# Altium schematic symbol library AD7291BCPZ.SchLib: 2 symbols
Pins are listed as number, name and electrical type; pins without a type are passive.

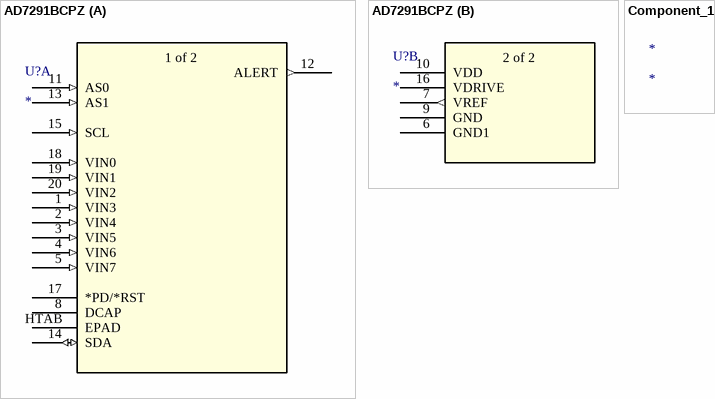
[diagram p0: symbols AD7291BCPZ to Component_1]

## AD7291BCPZ
designator U?
No Description Available; Mfr_Name: Analog Devices Inc; RefDes: RefDes; Type: Type
footprint CP_20_8_ADI
part A pins: 1 VIN3 (in), 2 VIN4 (in), 3 VIN5 (in), 4 VIN6 (in), 5 VIN7 (in), 8 DCAP, 11 AS0 (in), 12 ALERT (out), 13 AS1 (in), 14 SDA (io), 15 SCL (in), 17 *PD/*RST, 18 VIN0 (in), 19 VIN1 (in), 20 VIN2 (in), HTAB EPAD
part B pins: 6 GND1 (power), 7 VREF (out), 9 GND (power), 10 VDD (power), 16 VDRIVE (power)
part A text: 1 of 2
part B text: 2 of 2

## Component_1
designator *